# Altium schematic symbol library Trinks_Schlib1.SchLib: 3 symbols
Pins are listed as number, name and electrical type; pins without a type are passive.

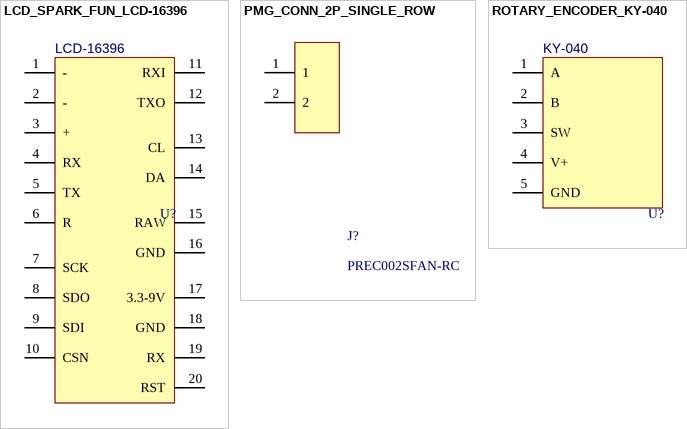
[diagram p0: symbols LCD_SPARK_FUN_LCD-16396 to ROTARY_ENCODER_KY-040]

## LCD_SPARK_FUN_LCD-16396
designator U?, comment LCD-16396
LCD 16X2; MFG: SparkFun; Supplier 1: Mouser; MFG_PN: LCD-16396
footprint LCD-16396 (LCD 16X2)
pins: 1 -, 2 -, 3 +, 4 RX, 5 TX, 6 R, 7 SCK, 8 SDO, 9 SDI, 10 CSN, 11 RXI, 12 TXO, 13 CL, 14 DA, 15 RAW, 16 GND, 17 3.3-9V, 18 GND, 19 RX, 20 RST

## PMG_CONN_2P_SINGLE_ROW
designator J?, comment PREC002SFAN-RC
CONN HEADER VERT 2POS 2.54MM; MFG: Sullins Connector Solutions; Case/Package: 2P_2.54MM; MFG_PN: PREC002SFAN-RC; Supplier 1: Digi-Key; Supplier Part Number 1: S1212EC-02-ND; Value: *; Unit Price: .07
footprint HDR_1X2_100MILL (SINGLE ROW 2 PIN HDR 2.54MM)
pins: 1, 2

## ROTARY_ENCODER_KY-040
designator U?, comment KY-040
ROTARY ENCODER; MFG: UNKNOWN; Supplier 1: Amazon; MFG_PN: KY-040
footprint ROTARY_ENCODER_KY-040
pins: 1 A, 2 B, 3 SW, 4 V+, 5 GND